# EAGLE library part DSPIC30F3013 (library microchip-dspic)
dsPIC Sensor DSC
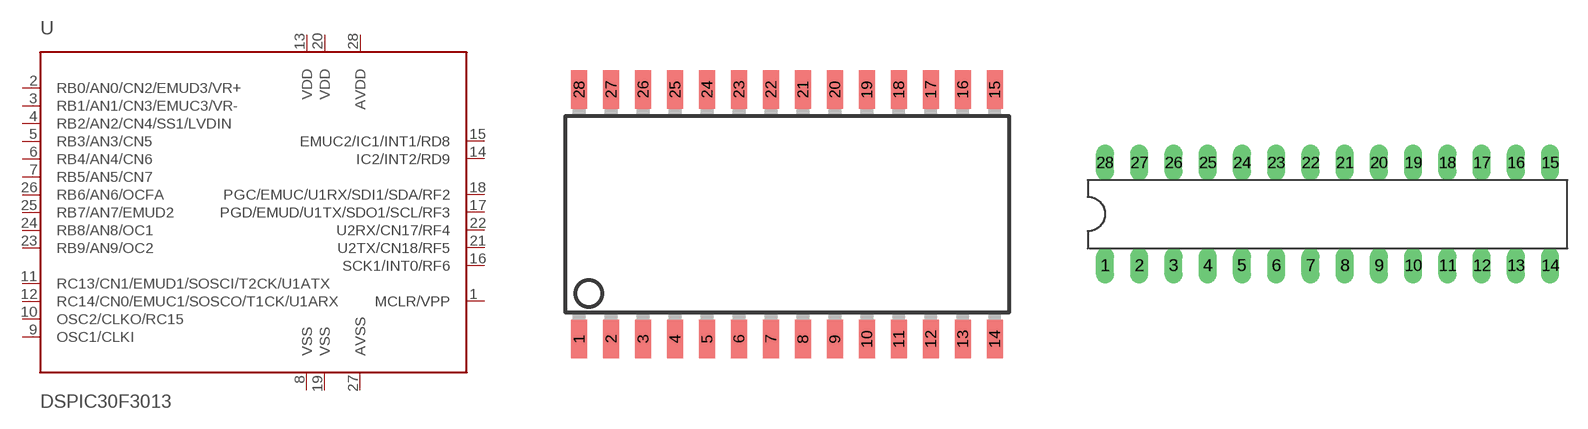
[diagram p28: symbol with the pads of SO-28W; footprints SO-28W, DIL28-3]

Designator prefix -

## DSPIC30F3013/SO  [SO-28W]
1  MCLR/VPP  in
2  RB0/AN0/CN2/EMUD3/VR+
3  RB1/AN1/CN3/EMUC3/VR-
4  RB2/AN2/CN4/SS1/LVDIN
5  RB3/AN3/CN5
6  RB4/AN4/CN6
7  RB5/AN5/CN7
8  VSS  pwr
9  OSC1/CLKI  in
10  OSC2/CLKO/RC15
11  RC13/CN1/EMUD1/SOSCI/T2CK/U1ATX
12  RC14/CN0/EMUC1/SOSCO/T1CK/U1ARX
13  VDD  pwr
14  IC2/INT2/RD9
15  EMUC2/IC1/INT1/RD8
16  SCK1/INT0/RF6
17  PGD/EMUD/U1TX/SDO1/SCL/RF3
18  PGC/EMUC/U1RX/SDI1/SDA/RF2
19  VSS  pwr
20  VDD  pwr
21  U2TX/CN18/RF5
22  U2RX/CN17/RF4
23  RB9/AN9/OC2
24  RB8/AN8/OC1
25  RB7/AN7/EMUD2
26  RB6/AN6/OCFA
27  AVSS  pwr
28  AVDD  pwr

## DSPIC30F3013/SP  [DIL28-3]
Pads as for SO-28W

## DSPIC30F3013/ML  [QFN44-8X8]
1  PGC/EMUC/U1RX/SDI1/SDA/RF2
2  VSS  pwr
4  VDD  pwr
7  U2TX/CN18/RF5
9  U2RX/CN17/RF4
10  RB9/AN9/OC2
11  RB8/AN8/OC1
12  RB7/AN7/EMUD2
14  RB6/AN6/OCFA
16  AVSS  pwr
17  AVDD  pwr
18  MCLR/VPP  in
19  RB0/AN0/CN2/EMUD3/VR+
20  RB1/AN1/CN3/EMUC3/VR-
23  RB2/AN2/CN4/SS1/LVDIN
25  RB3/AN3/CN5
26  RB4/AN4/CN6
27  RB5/AN5/CN7
30  VSS  pwr
32  OSC1/CLKI  in
33  OSC2/CLKO/RC15
34  RC13/CN1/EMUD1/SOSCI/T2CK/U1ATX
35  RC14/CN0/EMUC1/SOSCO/T1CK/U1ARX
36  VDD  pwr
37  IC2/INT2/RD9
42  EMUC2/IC1/INT1/RD8
43  SCK1/INT0/RF6
44  PGD/EMUD/U1TX/SDO1/SCL/RF3

## Footprint SO-28W (pad centres in mm)
Small Outline Wide Plastic Gull Wing 300-mil body, package type SO
smd 0.635 x 1.524: 1 -7.62,-4.953; 2 -6.35,-4.953; 3 -5.08,-4.953; 4 -3.81,-4.953; 5 -2.54,-4.953; 6 -1.27,-4.953; 7 0,-4.953; 8 1.27,-4.953; 9 2.54,-4.953; 10 3.81,-4.953; 11 5.08,-4.953; 12 6.35,-4.953; 13 7.62,-4.953; 14 8.89,-4.953; 15 8.89,4.953; 16 7.62,4.953; 17 6.35,4.953; 18 5.08,4.953; 19 3.81,4.953; 20 2.54,4.953; 21 1.27,4.953; 22 0,4.953; 23 -1.27,4.953; 24 -2.54,4.953; 25 -3.81,4.953; 26 -5.08,4.953; 27 -6.35,4.953; 28 -7.62,4.953

## Footprint DIL28-3 (pad centres in mm)
Dual In Line package type P
drill 0.813 long: 1 -16.51,-3.81; 2 -13.97,-3.81; 3 -11.43,-3.81; 4 -8.89,-3.81; 5 -6.35,-3.81; 6 -3.81,-3.81; 7 -1.27,-3.81; 8 1.27,-3.81; 9 3.81,-3.81; 10 6.35,-3.81; 11 8.89,-3.81; 12 11.43,-3.81; 13 13.97,-3.81; 14 16.51,-3.81; 15 16.51,3.81; 16 13.97,3.81; 17 11.43,3.81; 18 8.89,3.81; 19 6.35,3.81; 20 3.81,3.81; 21 1.27,3.81; 22 -1.27,3.81; 23 -3.81,3.81; 24 -6.35,3.81; 25 -8.89,3.81; 26 -11.43,3.81; 27 -13.97,3.81; 28 -16.51,3.81

## Footprint QFN44-8X8 (pad centres in mm)
Quad Flat No Lead
smd 0.6 x 0.37: 1 3.825,-3.25; 2 3.825,-2.6; 3 3.825,-1.95; 4 3.825,-1.3; 5 3.825,-0.65; 6 3.825,0; 7 3.825,0.65; 8 3.825,1.3; 9 3.825,1.95; 10 3.825,2.6; 11 3.825,3.25; 23 -3.825,3.25; 24 -3.825,2.6; 25 -3.825,1.95; 26 -3.825,1.3; 27 -3.825,0.65; 28 -3.825,0; 29 -3.825,-0.65; 30 -3.825,-1.3; 31 -3.825,-1.95; 32 -3.825,-2.6; 33 -3.825,-3.25
smd 0.37 x 0.6: 12 3.25,3.825; 13 2.6,3.825; 14 1.95,3.825; 15 1.3,3.825; 16 0.65,3.825; 17 0,3.825; 18 -0.65,3.825; 19 -1.3,3.825; 20 -1.95,3.825; 21 -2.6,3.825; 22 -3.25,3.825; 34 -3.25,-3.825; 35 -2.6,-3.825; 36 -1.95,-3.825; 37 -1.3,-3.825; 38 -0.65,-3.825; 39 0,-3.825; 40 0.65,-3.825; 41 1.3,-3.825; 42 1.95,-3.825; 43 2.6,-3.825; 44 3.25,-3.825